# EAGLE library part W25Q32JVSSIQ_TR (library W25Q32JVSSIQ_TR)
NOR Flash spiFlash, 32M-bit, DTR, 4Kb Uniform Sector Source: Datasheet <https://www.winbond.com/resource-files/w25q32jv spi revc 08302016.pdf>
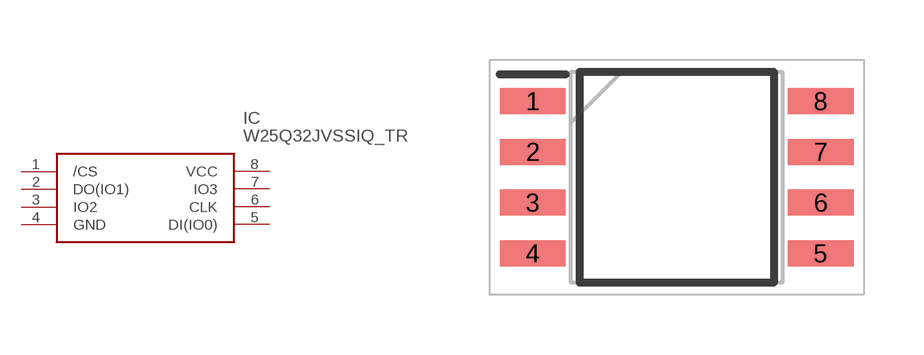
[diagram p0: symbol with the pads of SOIC127P790X216-8N; footprint SOIC127P790X216-8N]

Designator prefix IC

## W25Q32JVSSIQ_TR (Arrow_Part_Number: W25Q32JVSSIQ TR; Arrow_Price-Stock: https://www.arrow.com/en/products/w25q32jvssiqtr/winbond-electronics?utm_currency=USD&region=nac; Description: NOR Flash spiFlash, 32M-bit, DTR, 4Kb Uniform Sector; Height: 2.16mm; Manufacturer_Name: Winbond; Manufacturer_Part_Number: W25Q32JVSSIQ TR; Mouser_Part_Number: 454-W25Q32JVSSIQTR; Mouser_Price-Stock: https://www.mouser.co.uk/ProductDetail/Winbond/W25Q32JVSSIQ-TR?qs=qSfuJ%252Bfl%2Fd73AdQzQa%2FEuA%3D%3D)  [SOIC127P790X216-8N]
1  /CS
2  DO(IO1)
3  IO2
4  GND
5  DI(IO0)
6  CLK
7  IO3
8  VCC

## Footprint SOIC127P790X216-8N (pad centres in mm)
W25Q32JVSSIQ TR-
smd 1.65 x 0.65: 1 -3.6,1.905; 2 -3.6,0.635; 3 -3.6,-0.635; 4 -3.6,-1.905; 5 3.6,-1.905; 6 3.6,-0.635; 7 3.6,0.635; 8 3.6,1.905